# Altium footprint library Kondensator_DIP.PcbLib: 222 footprints (part 12 of 14)
Each footprint in its own frame and in the unit in brackets; x right, y up, seen from the top. Pads: shape width x height; smd on the part's side, far side on the other; paste and mask are expansions set on the pad; w line width, h text height; cw(c..) or ccw(c..) is an arc to the next point about the centre after c.
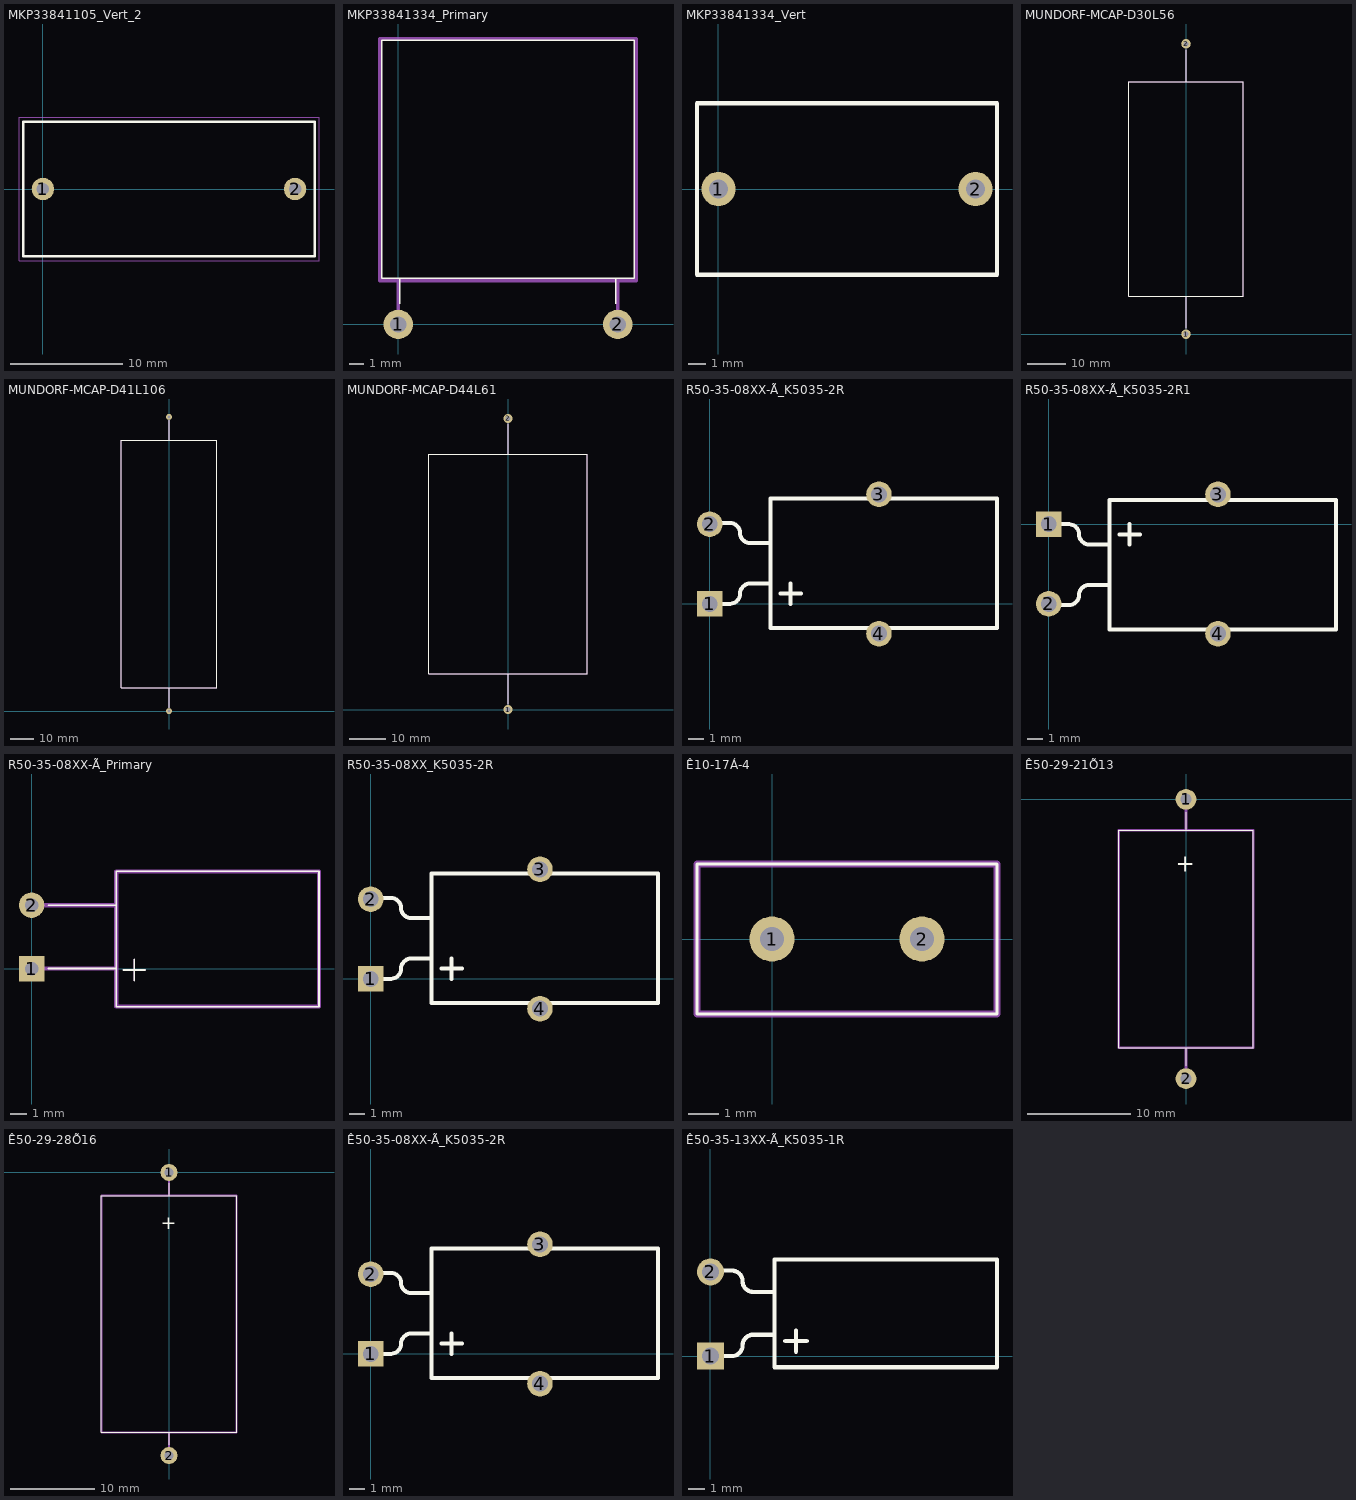
[diagram p11: the footprints below, top view; thin cyan lines are the x and y axes]

## MKP33841105_Vert_2 [mm]
pads (2):
  round 2 hole 1.1: 1(0,0) 2(22.5,0)
Top Overlay:
  lines w0.254: -1.75,-6 24.25,-6 24.25,6 -1.75,6 -1.75,-6
Mechanical 1:
  lines w0.1: -2.13,-6.38 24.63,-6.38 24.63,6.38 -2.13,6.38 -2.13,-6.38

## MKP33841334_Primary [mm]
pads (2):
  round 2 hole 1.1: 1(0,0) 2(15,0)
Top Overlay:
  lines w0.1: 0.12,1.41 0.12,3.16 ; 14.87,1.41 14.87,3.16 ; -1.13,3.16 16.12,3.16 16.12,19.41 -1.13,19.41 -1.13,3.16
Mechanical 1:
  lines w0.15: -1.25,3 -1.25,19.5 ; 0.02,1.26 0.02,2.96
  lines w0.25: 0,0 0,3 ; 15,0 15,3 ; -1.25,3 16.25,3 16.25,19.5 -1.25,19.5 -1.25,3

## MKP33841334_Vert [mm]
pads (2):
  round 2 hole 1.1: 1(0,0) 2(15,0)
Top Overlay:
  lines w0.25: -1.25,-5 16.25,-5 16.25,5 -1.25,5 -1.25,4.5 -1.25,-5

## MUNDORF-MCAP-D30L56 [mm]
pads (2):
  round 2.5 hole 1.3: 1(0,0) 2(0,76)
Top Overlay:
  lines w0.1: 0,1.5 0,10 ; 0,74.5 0,66 ; 0,10 15,10 15,66 0,66 ; 0,10 -15,10 -15,66 0,66
Mechanical 1:
  lines w0.25: 0,1.5 0,10 ; 0,74.5 0,66 ; 0,10 15,10 15,66 0,66 ; 0,10 -15,10 -15,66 0,66

## MUNDORF-MCAP-D41L106 [mm]
pads (2):
  round 2.5 hole 1.3: 1(0,0) 2(0,126)
Top Overlay:
  lines w0.1: 0,1.5 0,10 ; 0,124.5 0,116 ; 0,10 20.5,10 20.5,116 0,116 ; 0,10 -20.5,10 -20.5,116 0,116
Mechanical 1:
  lines w0.25: 0,1.5 0,10 ; 0,124.5 0,116 ; 0,10 20.5,10 20.5,116 0,116 ; 0,10 -20.5,10 -20.5,116 0,116

## MUNDORF-MCAP-D44L61 [mm]
pads (2):
  round 2.5 hole 1.3: 1(0,0) 2(0,81)
Top Overlay:
  lines w0.1: 0,1.5 0,10 ; 0,79.5 0,71 ; 0,10 22,10 22,71 0,71 ; 0,10 -22,10 -22,71 0,71
Mechanical 1:
  lines w0.25: 0,1.5 0,10 ; 0,79.5 0,71 ; 0,10 22,10 22,71 0,71 ; 0,10 -22,10 -22,71 0,71

## PCBComponent_1 [mm]

## R50-35-08XX-Ã_K5035-2R [mm]
pads (4):
  rect 1.6x1.6 hole 1: 1(0,0)
  round 1.6 hole 1: 2(0,5) 3(10.625,6.875) 4(10.625,-1.875)
Top Overlay:
  lines w0.25: 0,0 1.27,0 ; 0,5.08 1.27,5.08 ; 1.271,0 ccw(c1.27,0.635) 1.905,0.635 ; 1.271,5.08 cw(c1.27,4.445) 1.905,4.445 ; 1.905,0.636 cw(c2.54,0.635) 2.541,1.27 ; 1.905,4.446 ccw(c2.54,4.445) 2.541,3.81 ; 2.54,1.27 3.81,1.27 ; 2.54,3.81 3.81,3.81 ; 4.445,0.635 5.715,0.635 ; 5.08,0 5.08,1.27 ; 3.81,-1.524 18.034,-1.524 18.034,6.604 3.81,6.604 3.81,-1.524

## R50-35-08XX-Ã_K5035-2R1 [mm]
pads (4):
  rect 1.6x1.6 hole 1: 1(0,0)
  round 1.6 hole 1: 2(0,-5) 3(10.625,1.875) 4(10.625,-6.875)
Top Overlay:
  lines w0.25: 0,-5.08 1.27,-5.08 ; 0,0 1.27,0 ; 1.271,-5.08 ccw(c1.27,-4.445) 1.905,-4.445 ; 1.271,0 cw(c1.27,-0.635) 1.905,-0.635 ; 1.905,-4.444 cw(c2.54,-4.445) 2.541,-3.81 ; 1.905,-0.634 ccw(c2.54,-0.635) 2.541,-1.27 ; 2.54,-3.81 3.81,-3.81 ; 2.54,-1.27 3.81,-1.27 ; 4.445,-0.635 5.715,-0.635 ; 5.08,-1.27 5.08,0 ; 3.81,-6.604 18.034,-6.604 18.034,1.524 3.81,1.524 3.81,-6.604

## R50-35-08XX-Ã_Primary [mm]
pads (2):
  rect 1.5x1.5 hole 0.8: 1(0,0)
  round 1.5 hole 0.8: 2(0,3.75)
Top Overlay:
  lines w0.1: 1,0 5,0 ; 1,3.75 5,3.75 ; 5.43,-0.08 6.7,-0.08 ; 6.065,-0.715 6.065,0.555 ; 5,-2.25 17,-2.25 17,5.75 5,5.75 5,-2.25
Mechanical 1:
  lines w0.1: 5.435,-0.075 6.705,-0.075 ; 6.07,-0.71 6.07,0.56
  lines w0.25: 0,0 5,0 ; 0,3.75 5,3.75 ; 5,-2.25 17,-2.25 17,5.75 5,5.75 5,-2.25

## R50-35-08XX_K5035-2R [mm]
pads (4):
  rect 1.6x1.6 hole 1: 1(0,0)
  round 1.6 hole 1: 2(0,5) 3(10.625,6.875) 4(10.625,-1.875)
Top Overlay:
  lines w0.25: 0,0 1.27,0 ; 0,5.08 1.27,5.08 ; 1.271,0 ccw(c1.27,0.635) 1.905,0.635 ; 1.271,5.08 cw(c1.27,4.445) 1.905,4.445 ; 1.905,0.636 cw(c2.54,0.635) 2.541,1.27 ; 1.905,4.446 ccw(c2.54,4.445) 2.541,3.81 ; 2.54,1.27 3.81,1.27 ; 2.54,3.81 3.81,3.81 ; 4.445,0.635 5.715,0.635 ; 5.08,0 5.08,1.27 ; 3.81,-1.524 18.034,-1.524 18.034,6.604 3.81,6.604 3.81,-1.524

## Ê10-17Á-4 [mm]
pads (2):
  round 1.5 hole 0.8: 1(0,0) 2(5,0)
Top Overlay:
  lines w0.1: -2.5,-2.5 7.5,-2.5 7.5,2.5 -2.5,2.5 -2.5,-2.5
Mechanical 1:
  lines w0.1: -2.5,-2.5 7.5,-2.5 7.5,2.5 -2.5,2.5 -2.5,-2.5
  lines w0.25: -2.5,-2.5 7.5,-2.5 ; -2.5,-2.5 7.5,-2.5 ; -2.5,-2.5 -2.5,2.5 ; -2.5,-2.5 -2.5,2.5 ; -2.5,2.5 7.5,2.5 ; -2.5,2.5 7.5,2.5 ; 7.5,-2.5 7.5,2.5 ; 7.5,-2.5 7.5,2.5

## Ê50-29-21Õ13 [mm]
pads (2):
  round 2 hole 1.1: 1(0,0) 2(0,-27)
Top Overlay:
  lines w0.1: 0,-25.75 0,-24 ; 0,-3 0,-1.25 ; -6.5,-24 6.5,-24 6.5,-3 -6.5,-3 -6.5,-24
  text "+" at -1,-7 h1.63
Mechanical 1:
  lines w0.25: 0,-27 0,-24 ; 0,-3 0,0 ; -6.5,-24 6.5,-24 6.5,-3 -6.5,-3 -6.5,-24

## Ê50-29-28Õ16 [mm]
pads (2):
  round 2 hole 1.1: 1(0,0) 2(0,-33.5)
Top Overlay:
  lines w0.1: 0,-32.25 0,-30.75 ; 0,-2.75 0,-1.25 ; -8,-30.75 8,-30.75 8,-2.75 -8,-2.75 -8,-30.75
  text "+" at -1,-6.75 h1.63
Mechanical 1:
  lines w0.25: 0,-33.5 0,-30.75 ; 0,-2.75 0,0 ; -8,-30.75 8,-30.75 8,-2.75 -8,-2.75 -8,-30.75

## Ê50-35-08XX-Ã_K5035-2R [mm]
pads (4):
  rect 1.6x1.6 hole 1: 1(0,0)
  round 1.6 hole 1: 2(0,5) 3(10.625,6.875) 4(10.625,-1.875)
Top Overlay:
  lines w0.25: 0,0 1.27,0 ; 0,5.08 1.27,5.08 ; 1.271,0 ccw(c1.27,0.635) 1.905,0.635 ; 1.271,5.08 cw(c1.27,4.445) 1.905,4.445 ; 1.905,0.636 cw(c2.54,0.635) 2.541,1.27 ; 1.905,4.446 ccw(c2.54,4.445) 2.541,3.81 ; 2.54,1.27 3.81,1.27 ; 2.54,3.81 3.81,3.81 ; 4.445,0.635 5.715,0.635 ; 5.08,0 5.08,1.27 ; 3.81,-1.524 18.034,-1.524 18.034,6.604 3.81,6.604 3.81,-1.524

## Ê50-35-13XX-Ã_K5035-1R [mm]
pads (2):
  rect 1.6x1.6 hole 1: 1(0,0)
  round 1.6 hole 1: 2(0,5)
Top Overlay:
  lines w0.25: 0,0 1.27,0 ; 0,5.08 1.27,5.08 ; 1.271,0 ccw(c1.27,0.635) 1.905,0.635 ; 1.271,5.08 cw(c1.27,4.445) 1.905,4.445 ; 1.905,0.636 cw(c2.54,0.635) 2.541,1.27 ; 1.905,4.446 ccw(c2.54,4.445) 2.541,3.81 ; 2.54,1.27 3.81,1.27 ; 2.54,3.81 3.81,3.81 ; 4.445,0.889 5.715,0.889 ; 5.08,0.254 5.08,1.524 ; 3.81,-0.66 17.018,-0.66 17.018,5.74 3.81,5.74 3.81,-0.66